# Altium footprint library CL_STD_2220.PcbLib: 1 footprints
Each footprint in its own frame and in the unit in brackets; x right, y up, seen from the top. Pads: shape width x height; smd on the part's side, far side on the other; paste and mask are expansions set on the pad; w line width, h text height; cw(c..) or ccw(c..) is an arc to the next point about the centre after c.
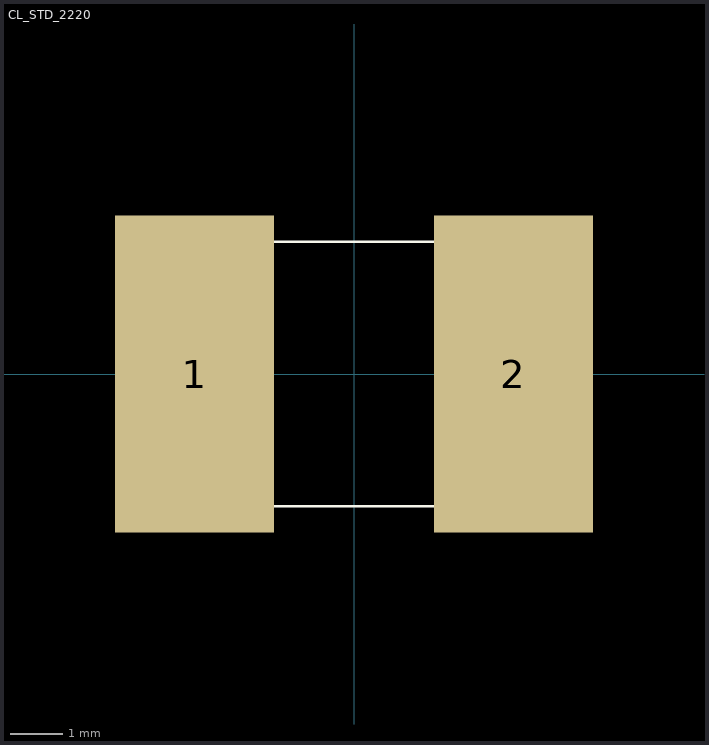
[diagram p0: the footprint, top view; thin cyan lines are the x and y axes]

## CL_STD_2220 [mm]
pads (2):
  rect 3.06x6.1 smd: 1(-3.065,0) 2(3.065,0)
Top Overlay:
  lines w0.051: -2.921,-2.54 -2.921,2.54 0,2.54 2.921,2.54 2.921,-2.54 -2.921,-2.54
3D body: height 2.5, standoff 0, extent -2.85,-2.5 2.85,2.5